# EAGLE library part CTS252B103A60NB (library Nwazet.Go)
CTS Series 252 Mini Joystick Two Axis, Mini-joystick With Momentary Switch
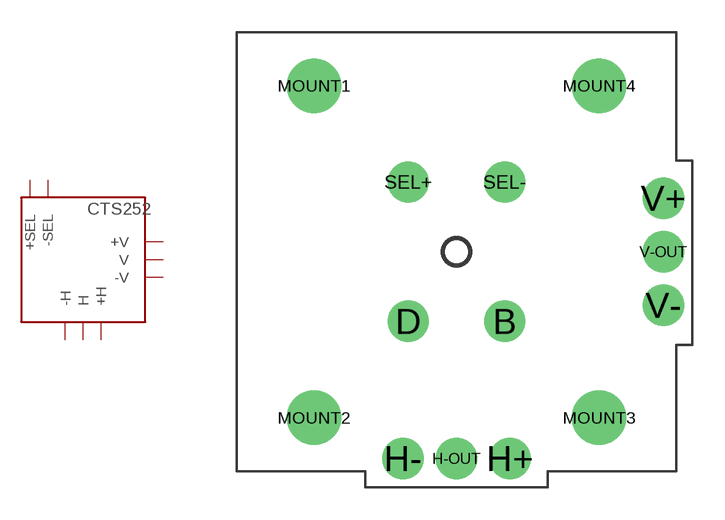
[diagram p2: symbol with the pads of JOYSTICK+SWITCH; footprint JOYSTICK+SWITCH]

Designator prefix CTS252

## CTS252B103A60NB10K  [JOYSTICK+SWITCH]
H+  +H  pwr
H-  -H  pas
H-OUT  H  out
SEL+  +SEL  pwr
SEL-  -SEL  pas
V+  +V  pwr
V-  -V  pas
V-OUT  V  out

## Footprint JOYSTICK+SWITCH (pad centres in mm)
drill 1.2 pad 1.93: B 2.25,-3.25; D -2.25,-3.25; H+ 2.5,-9.65; H- -2.5,-9.65; H-OUT 0,-9.65; SEL+ -2.25,3.25; SEL- 2.25,3.25; V+ 9.65,2.5; V- 9.65,-2.5; V-OUT 9.65,0
drill 1.5 pad 2.54: MOUNT1 -6.65,7.75; MOUNT2 -6.65,-7.75; MOUNT3 6.65,-7.75; MOUNT4 6.65,7.75